# Altium footprint library Molex Microfit 3.0 2x1.PcbLib: 1 footprints
Each footprint in its own frame and in the unit in brackets; x right, y up, seen from the top. Pads: shape width x height; smd on the part's side, far side on the other; paste and mask are expansions set on the pad; w line width, h text height; cw(c..) or ccw(c..) is an arc to the next point about the centre after c.
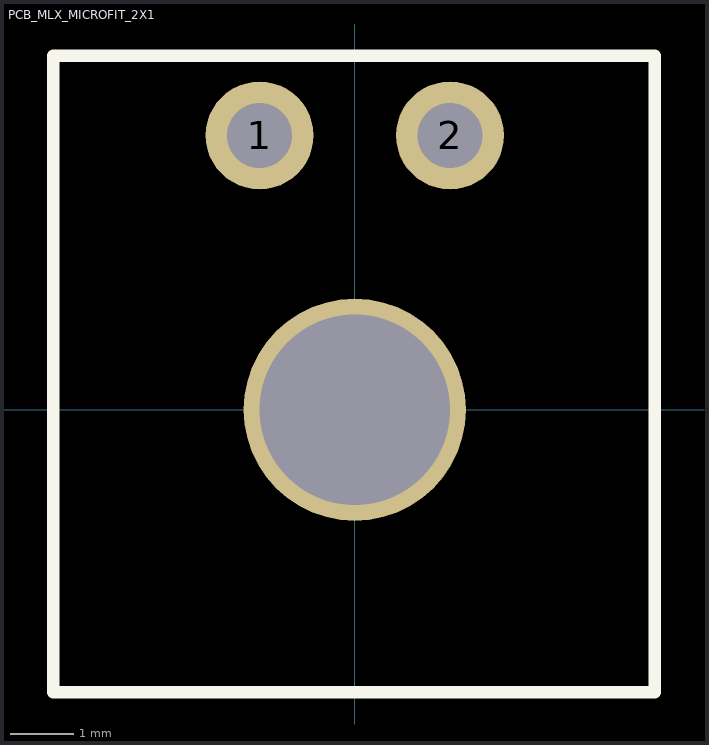
[diagram p0: the footprint, top view; thin cyan lines are the x and y axes]

## PCB_MLX_MICROFIT_2X1 [mm]
height 5.57
pads (3):
  round 1.7 hole 1.02: 1(-1.5,4.32) 2(1.5,4.32)
  round 3.5 hole 3: ""(0,0)
Top Overlay:
  lines w0.2: -4.75,-4.45 4.725,-4.45 4.725,5.575 -4.75,5.575 -4.75,-4.45
3D body "MLX_MICROFIT_2X1.stp": height 5.64, standoff -3.27, extent -4.825,-4.55 4.825,5.35